# Altium footprint library MSOP-16_MS.PcbLib: 2 footprints
Each footprint in its own frame and in the unit in brackets; x right, y up, seen from the top. Pads: shape width x height; smd on the part's side, far side on the other; paste and mask are expansions set on the pad; w line width, h text height; cw(c..) or ccw(c..) is an arc to the next point about the centre after c.
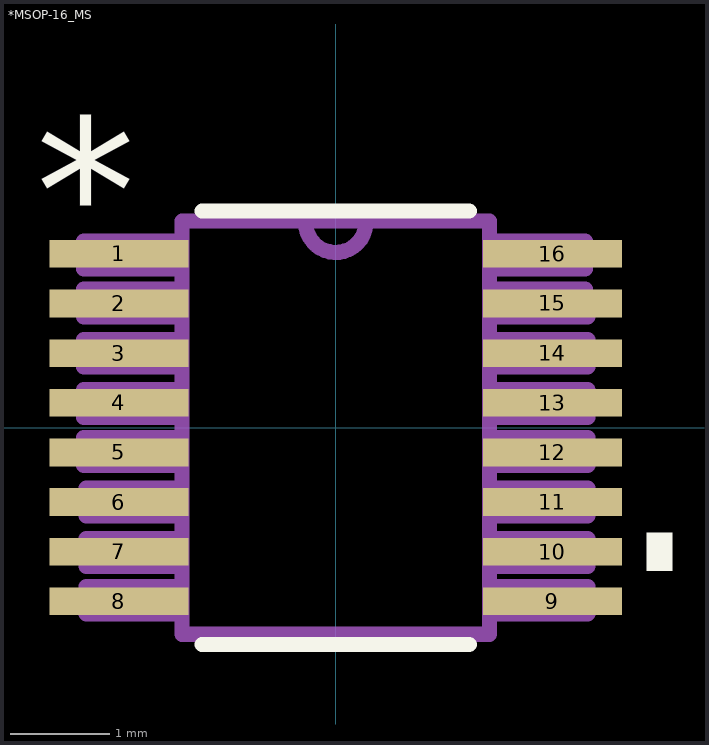
[diagram p0: the footprints below, top view; thin cyan lines are the x and y axes]

## *MSOP-16_MS [mil]
pads (16):
  rect 55x11 smd: 1(-86,68.95) 2(-86,49.25) 3(-86,29.55) 4(-86,9.85) 5(-86,-9.85) 6(-86,-29.55) 7(-86,-49.25) 8(-86,-68.95) 9(86,-68.95) 10(86,-49.25) 11(86,-29.55) 12(86,-9.85) 13(86,9.85) 14(86,29.55) 15(86,49.25) 16(86,68.95)
Top Overlay:
  region: 133.5,-41.75 133.5,-56.75 123.5,-56.75 123.5,-41.75
  lines w6: -53,-86 53,-86 ; -53,86 53,86
  text "*" at -119,65.16 h73.82
Mechanical 4:
  lines w6: -100,-15 -61,-15 ; -100,-15 -100,-4 ; -100,-15 -61,-15 ; -100,-15 -100,-4 ; -100,-4 -61,-4 ; -100,-4 -61,-4 ; -100,4 -61,4 ; -100,4 -100,15 ; -100,4 -61,4 ; -100,4 -100,15 ; -100,15 -61,15 ; -100,15 -61,15 ; -100,24 -61,24 ; -100,24 -100,35 ; -100,24 -61,24 ; -100,24 -100,35 ; -100,35 -61,35 ; -100,35 -61,35 ; -100,44 -61,44 ; -100,44 -100,55 ; -100,44 -61,44 ; -100,44 -100,55 ; -100,55 -61,55 ; -100,55 -61,55 ; -100,63 -61,63 ; -100,63 -100,74 ; -100,63 -61,63 ; -100,63 -100,74 ; -100,74 -61,74 ; -100,74 -61,74 ; -99,-74 -61,-74 ; -99,-74 -99,-63 ; -99,-74 -61,-74 ; -99,-74 -99,-63 ; -99,-63 -61,-63 ; -99,-63 -61,-63 ; -99,-55 -61,-55 ; -99,-55 -99,-44 ; -99,-55 -61,-55 ; -99,-55 -99,-44 ; -99,-44 -61,-44 ; -99,-44 -61,-44 ; -99,-35 -61,-35 ; -99,-35 -99,-24 ; -99,-35 -61,-35 ; -99,-35 -99,-24 ; -99,-24 -61,-24 ; -99,-24 -61,-24 ; -61,-82 -61,82 ; -61,-82 61,-82 ; -61,-82 -61,82 ; -61,-82 61,-82 ; -61,-74 -61,-63 ; -61,-74 -61,-63 ; -61,-55 -61,-44 ; -61,-55 -61,-44 ; -61,-35 -61,-24 ; -61,-35 -61,-24 ; -61,-15 -61,-4 ; -61,-15 -61,-4 ; -61,4 -61,15 ; -61,4 -61,15 ; -61,24 -61,35 ; -61,24 -61,35 ; -61,44 -61,55 ; -61,44 -61,55 ; -61,63 -61,74 ; -61,63 -61,74 ; -61,82 12,82 ; -61,82 12,82 ; 12,82 61,82 ; 12,82 61,82 ; 61,-82 61,82 ; 61,-82 61,82 ; 61,-74 100,-74 ; 61,-74 61,-63 ; 61,-74 100,-74 ; 61,-74 61,-63 ; 61,-63 100,-63 ; 61,-63 100,-63 ; 61,-55 100,-55 ; 61,-55 61,-44 ; 61,-55 100,-55 ; 61,-55 61,-44 ; 61,-44 100,-44 ; 61,-44 100,-44 ; 61,-35 100,-35 ; 61,-35 61,-24 ; 61,-35 100,-35 ; 61,-35 61,-24 ; 61,-24 100,-24 ; 61,-24 100,-24 ; 61,-15 100,-15 ; 61,-15 61,-4 ; 61,-15 100,-15 ; 61,-15 61,-4 ; 61,-4 100,-4 ; 61,-4 100,-4 ; 61,4 100,4 ; 61,4 61,15 ; 61,4 100,4 ; 61,4 61,15 ; 61,15 100,15 ; 61,15 100,15 ; 61,24 100,24 ; 61,24 61,35 ; 61,24 100,24 ; 61,24 61,35 ; 61,35 100,35 ; 61,35 100,35 ; 61,44 100,44 ; 61,44 61,55 ; 61,44 100,44 ; 61,44 61,55 ; 61,55 99,55 ; 61,55 99,55 ; 61,63 99,63 ; 61,63 61,74 ; 61,63 99,63 ; 61,63 61,74 ; 61,74 99,74 ; 61,74 99,74 ; 99,55 100,44 ; 99,55 100,44 ; 99,63 99,74 ; 99,63 99,74 ; 100,-74 100,-63 ; 100,-74 100,-63 ; 100,-55 100,-44 ; 100,-55 100,-44 ; 100,-35 100,-24 ; 100,-35 100,-24 ; 100,-15 100,-4 ; 100,-15 100,-4 ; 100,4 100,15 ; 100,4 100,15 ; 100,24 100,35 ; 100,24 100,35 ; -12,81.08 ccw(c0,81.5) 12,81.92 cw(c0,81.5) -12,81.08
  text "*" at -69,18.16 h73.82
  text "*" at -69,18.16 h73.82
3D body "LTC6820HMS#PBF.STEP": height 43.65, standoff 0.35, extent -96.46,-79.5 96.46,79.51

## PCBComponent_1 [mil]